# Altium footprint library Notecarrier AF.PcbLib: 40 footprints (part 3 of 3)
Each footprint in its own frame and in the unit in brackets; x right, y up, seen from the top. Pads: shape width x height; smd on the part's side, far side on the other; paste and mask are expansions set on the pad; w line width, h text height; cw(c..) or ccw(c..) is an arc to the next point about the centre after c.
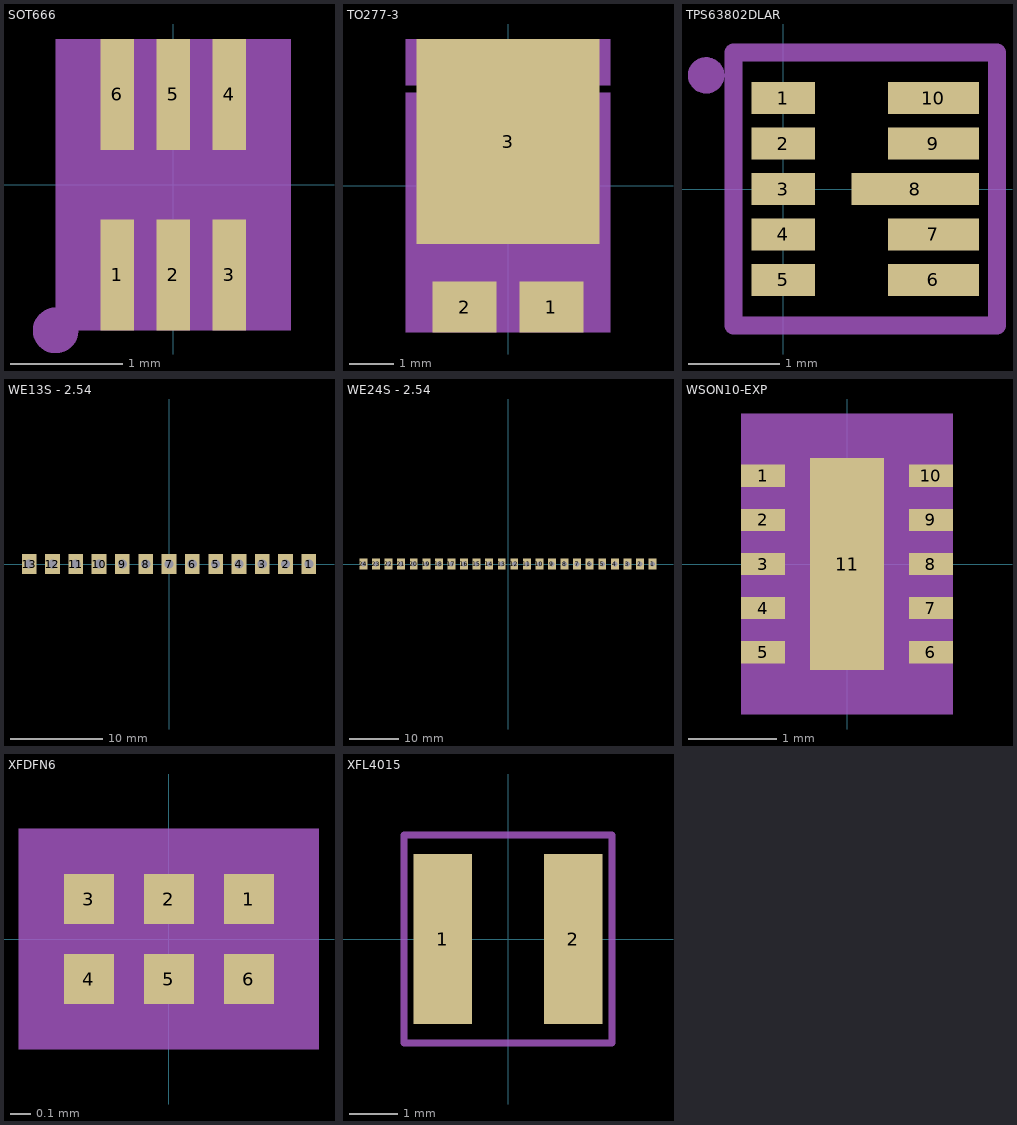
[diagram p2: the footprints below, top view; thin cyan lines are the x and y axes]

## SOT666 [mm]
pads (6):
  rect 0.3x0.99 smd: 1(-0.5,-0.805) 2(0,-0.805) 3(0.5,-0.805) 4(0.5,0.805) 5(0,0.805) 6(-0.5,0.805)
Top 3D Body:
  region: -1.05,1.3 -1.05,-1.3 1.05,-1.3 1.05,1.3
Mechanical 17:
  text "6" at -0.4,0.745 h0.2
  text "5" at 0.1,0.745 h0.2
  text "4" at 0.6,0.745 h0.2
  text "2" at 0.1,-0.865 h0.2
  text "1" at -0.4,-0.865 h0.2
  text "3" at 0.6,-0.865 h0.2
Mechanical 18:
  dashed: -0.57,-0.156 -0.648,-0.172 -0.714,-0.216 -0.758,-0.282 -0.774,-0.36 -0.758,-0.438 -0.744,-0.46 -0.714,-0.504 -0.648,-0.548 -0.57,-0.564 -0.492,-0.548 -0.426,-0.504 -0.396,-0.46 -0.382,-0.438 -0.366,-0.36 -0.382,-0.282 -0.426,-0.216 -0.492,-0.172
  dashed: 0.65,-0.85 0.65,-0.65 0.85,-0.65 0.85,0.65 0.65,0.65 0.65,0.85 1.05,0.85 1.05,-0.85
  dashed: -1.05,-0.85 -1.05,0.85 -0.65,0.85 -0.65,0.65 -0.85,0.65 -0.85,-0.65 -0.65,-0.65 -0.65,-0.85
Mechanical255:
  circle w0.254: c-1.05,-1.3 r0.076
  region: 0.75,-0.85 0.75,-0.65 0.85,-0.65 0.85,0.65 0.75,0.65 0.75,0.85 1.05,0.85 1.05,-0.85
  region: -1.05,-0.85 -1.05,0.85 -0.75,0.85 -0.75,0.65 -0.85,0.65 -0.85,-0.65 -0.75,-0.65 -0.75,-0.85
3D body "SOT666.stp": height 0.6, standoff 0, extent -0.794,-0.8 0.797,0.8

## TO277-3 [mm]
pads (3):
  rect 1.45x1.15 smd: 1(0.985,-2.75) 2(-0.985,-2.75)
  rect 4.15x4.65 smd: 3(0,1)
Top Paste:
  dashed: 2.075,1.325 2.075,3.325 0.275,3.325 0.275,1.325
  dashed: 2.075,-1.325 2.075,0.675 0.275,0.675 0.275,-1.325
  dashed: -0.275,1.325 -0.275,3.325 -2.075,3.325 -2.075,1.325
  dashed: -0.275,-1.325 -0.275,0.675 -2.075,0.675 -2.075,-1.325
Mechanical 19:
  text "3" at 0,1.08 h0.2
  text "1" at 0.985,-2.67 h0.2
  text "2" at -0.985,-2.67 h0.2
Top Assembly:
  pour cut-out: -2.315,2.281 -2.315,3.325 2.315,3.325 2.315,2.281
  pour cut-out: -2.315,-3.325 -2.315,2.107 2.315,2.107 2.315,-3.325
3D body "TO277-3.stp": height 1.2, standoff 0, extent -2.315,-3.325 2.315,3.325

## TPS63802DLAR [mm]
pads (10):
  rect 0.7x0.35 smd: 1(0,1) 2(0,0.5) 3(0,0) 4(0,-0.5) 5(0,-1)
  rect 1x0.35 smd: 6(1.65,-1) 7(1.65,-0.5) 9(1.65,0.5) 10(1.65,1)
  rect 1.4x0.35 smd: 8(1.45,0)
Mechanical 5:
  circle w0.2: c-0.85,1.25 r0.1
  lines w0.2: -0.55,-1.5 2.35,-1.5 ; -0.55,-1.48 -0.55,1.48 ; -0.55,1.5 2.35,1.5 2.35,-1.49

## WE13S - 2.54 [mm]
pads (13):
  rect 1.6x2.2 hole 1: 1(15.24,0) 2(12.7,0) 3(10.16,0) 4(7.62,0) 5(5.08,0) 6(2.54,0) 7(0,0) 8(-2.54,0) 9(-5.08,0) 10(-7.62,0) 11(-10.16,0) 12(-12.7,0) 13(-15.24,0)

## WE24S - 2.54 [mm]
pads (24):
  rect 1.6x2.2 hole 1: 1(29.21,0) 2(26.67,0) 3(24.13,0) 4(21.59,0) 5(19.05,0) 6(16.51,0) 7(13.97,0) 8(11.43,0) 9(8.89,0) 10(6.35,0) 11(3.81,0) 12(1.27,0) 13(-1.27,0) 14(-3.81,0) 15(-6.35,0) 16(-8.89,0) 17(-11.43,0) 18(-13.97,0) 19(-16.51,0) 20(-19.05,0) 21(-21.59,0) 22(-24.13,0) 23(-26.67,0) 24(-29.21,0)

## WSON10-EXP [mm]
pads (11):
  rect 0.5x0.25 smd: 1(-0.95,1) 2(-0.95,0.5) 3(-0.95,0) 4(-0.95,-0.5) 5(-0.95,-1) 6(0.95,-1) 7(0.95,-0.5) 8(0.95,0) 9(0.95,0.5) 10(0.95,1)
  rect 0.84x2.4 smd: 11(0,0)
Top Paste:
  dashed: -0.12,0.2 -0.12,1.2 -0.42,1.2 -0.42,0.2
  dashed: 0.42,0.2 0.42,1.2 0.12,1.2 0.12,0.2
  dashed: -0.12,-1.2 -0.12,-0.2 -0.42,-0.2 -0.42,-1.2
  dashed: 0.42,-1.2 0.42,-0.2 0.12,-0.2 0.12,-1.2
Top 3D Body:
  region: -1.2,1.7 -1.2,-1.7 1.2,-1.7 1.2,1.7
Mechanical 26:
  text "8" at 0.95,0.08 h0.2
  text "5" at -0.95,-0.92 h0.2
  text "4" at -0.95,-0.42 h0.2
  text "6" at 0.95,-0.92 h0.2
  text "7" at 0.95,-0.42 h0.2
  text "2" at -0.95,0.58 h0.2
  text "1" at -0.95,1.08 h0.2
  text "3" at -0.95,0.08 h0.2
  text "11" at 0,0.16 h0.2
  text "10" at 0.95,1.16 h0.2
  text "9" at 0.95,0.58 h0.2
Top Assembly:
  dashed: -1.2,-1.7 -1.2,1.7 1.2,1.7 1.2,-1.7
  pour cut-out: 1,-1.5 -1,-1.5 -1,1.5 1,1.5
  dashed: -0.69,0.808 -0.611,0.824 -0.545,0.868 -0.501,0.934 -0.486,1.012 -0.501,1.09 -0.516,1.112 -0.545,1.156 -0.611,1.201 -0.69,1.216 -0.768,1.201 -0.834,1.156 -0.863,1.112 -0.878,1.09 -0.893,1.012 -0.878,0.934 -0.834,0.868 -0.768,0.824
3D body "WSON10-EXP.stp": height 0.8, standoff 0, extent -1,-1.5 1,1.5

## XFDFN6 [mm]
pads (6):
  rect 0.25x0.25 smd: 1(0.4,0.2) 2(0,0.2) 3(-0.4,0.2) 4(-0.4,-0.2) 5(0,-0.2) 6(0.4,-0.2)
Mechanical 19:
  text "2" at 0,0.12 h0.2
  text "1" at 0.4,0.12 h0.2
  text "6" at 0.4,-0.28 h0.2
  text "5" at 0,-0.28 h0.2
  text "3" at -0.4,0.12 h0.2
  text "4" at -0.4,-0.28 h0.2
Top Assembly:
  dashed: 0.306,0.328 0.228,0.312 0.161,0.268 0.117,0.202 0.102,0.124 0.117,0.046 0.132,0.024 0.161,-0.02 0.228,-0.065 0.306,-0.08 0.384,-0.065 0.45,-0.02 0.479,0.024 0.494,0.046 0.51,0.124 0.494,0.202 0.45,0.268 0.384,0.312
  dashed: -0.75,-0.55 -0.75,0.55 0.75,0.55 0.75,-0.55
  pour cut-out: 0.55,-0.35 -0.55,-0.35 -0.55,0.35 0.55,0.35
3D body "XFDFN6.stp": height 0.38, standoff 0, extent -0.55,-0.35 0.55,0.35

## XFL4015 [mm]
pads (2):
  rect 1.2x3.5 smd: 1(-1.346,0) 2(1.346,0)
Mechanical 5:
  lines w0.152: -2.146,-2.146 2.146,-2.146 2.146,2.146 -2.146,2.146 -2.146,-2.146